# EAGLE library part HN2S01FU (library Diode)
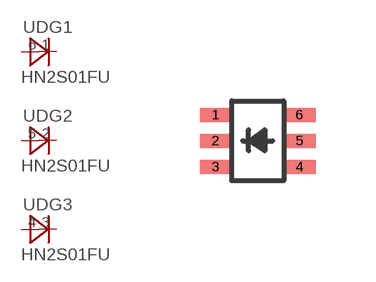
[diagram p0: symbol with the pads of HN2S01FU; footprint HN2S01FU]

Designator prefix UD; gates G1=DIODE G2=DIODE G3=DIODE

## HN2S01FU  [HN2S01FU]
1  G1:C  pas
2  G2:C  pas
3  G3:C  pas
4  G3:A  pas
5  G2:A  pas
6  G1:A  pas

## Footprint HN2S01FU (pad centres in mm)
smd 0.8 x 0.35: 1 -1.05,0.65; 2 -1.05,0; 3 -1.05,-0.65; 4 1.05,-0.65; 5 1.05,0; 6 1.05,0.65